# Altium footprint library Servo_Pinheader.PcbLib: 1 footprints
Each footprint in its own frame and in the unit in brackets; x right, y up, seen from the top. Pads: shape width x height; smd on the part's side, far side on the other; paste and mask are expansions set on the pad; w line width, h text height; cw(c..) or ccw(c..) is an arc to the next point about the centre after c.
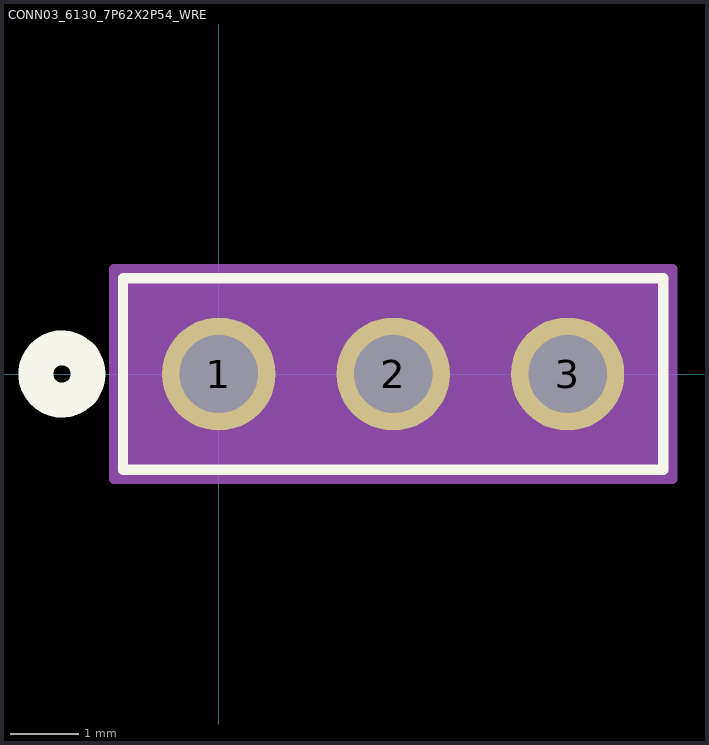
[diagram p0: the footprint, top view; thin cyan lines are the x and y axes]

## CONN03_6130_7P62X2P54_WRE [mil]
pads (3):
  round 65 hole 45 paste-32.5 mask+0: 1(0,0) 2(100,0) 3(200,0)
Top Overlay:
  circle w20: c-90,0 r15
  lines w6: -55,-55 255,-55 255,55 -55,55 -55,-55
  text ".Designator" at -37.5,-25 h50
Bottom Overlay:
  circle w20: c-90,0 r15
Mechanical 13:
  circle w20: c0,0 r15
  lines w1: -50,-50 250,-50 250,50 -50,50 -50,-50
  text ".Designator" at -37.5,-25 h50
Mechanical 15:
  region: 260,60 -60,60 -60,-60 260,-60
  lines w6: -60,-60 -60,60 260,60 260,-60 -60,-60